# EAGLE library part MMC5883MA-B (library MMC5883MA-B)
Designed by Prem and Pranav
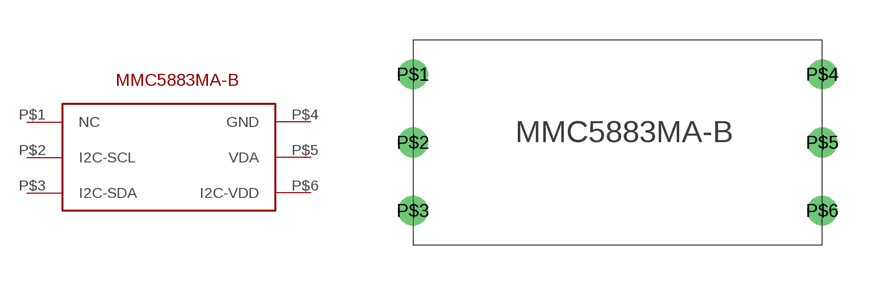
[diagram p0: symbol with the pads of MMC5883MA-B; footprint MMC5883MA-B]

Designator prefix -

## MMC5883MA-B  [MMC5883MA-B]
P$1  NC
P$2  I2C-SCL
P$3  I2C-SDA
P$4  GND
P$5  VDA
P$6  I2C-VDD

## Footprint MMC5883MA-B (pad centres in mm)
Designed by Prem and Pranav
drill 0.6: P$1 -7.62,2.54; P$2 -7.62,0; P$3 -7.62,-2.54; P$4 7.62,2.54; P$5 7.62,0; P$6 7.62,-2.54